# EAGLE library part GPS_BOARD (library GpsBoard)
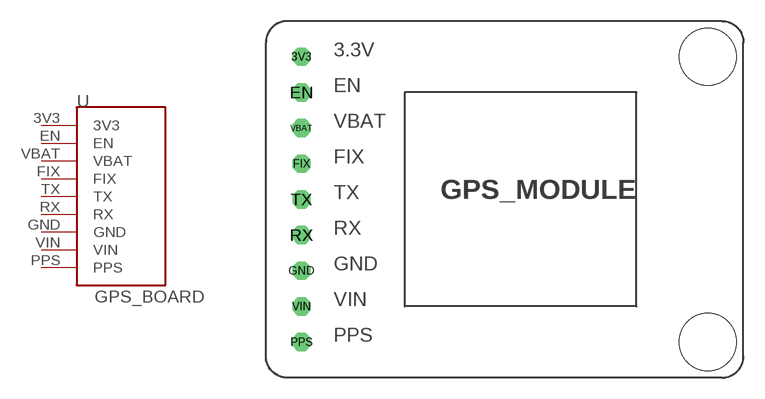
[diagram p0: symbol with the pads of SD_BOARD; footprint SD_BOARD]

Designator prefix -

## GPS_BOARD  [SD_BOARD]
3V3  3V3
EN  EN
FIX  FIX
GND  GND
PPS  PPS
RX  RX
TX  TX
VBAT  VBAT
VIN  VIN

## Footprint SD_BOARD (pad centres in mm)
drill 0.8 octagon: 3V3 2.794,22.86; EN 2.794,20.32; FIX 2.794,15.24; GND 2.794,7.62; PPS 2.794,2.54; RX 2.794,10.16; TX 2.794,12.7; VBAT 2.794,17.78; VIN 2.794,5.08
hole 4.064 at 31.75,22.86
hole 4.064 at 31.75,2.54